# EAGLE library part PIN_6 (library dooba)
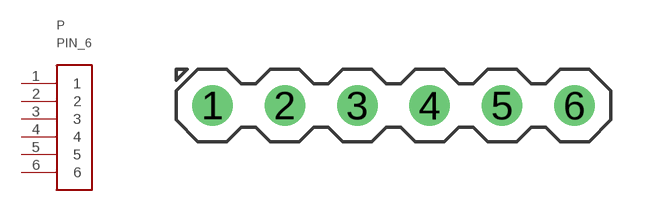
[diagram p6: symbol with the pads of PIN_6; footprint PIN_6]

Designator prefix P

## PIN_6  [PIN_6]
1  1
2  2
3  3
4  4
5  5
6  6

## Footprint PIN_6 (pad centres in mm)
drill 0.8 pad 1.422: 1 -6.35,0; 2 -3.81,0; 3 -1.27,0; 4 1.27,0; 5 3.81,0; 6 6.35,0